# EAGLE library part IS25LQ032B-JNLE (library mbed-HDK-IC)
Serial Flash 32 Mb 104 Mhz
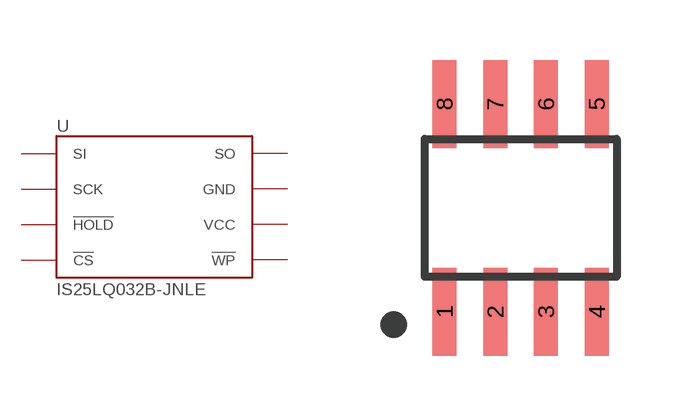
[diagram p22: symbol with the pads of SO8; footprint SO8]

Designator prefix U

## IS25LQ032B-JNLE (MF: ISSI; MFN: IS25LQ032B-JNLE; OC-DIGIKEY: 870-25LQ032BJNLE; OC-MOUSER: 870-25LQ032BJNLE; OC-NEWARK: 52Y1899)  [SO8]
1  !CS
2  SO
3  !WP
4  GND
5  SI
6  SCK
7  !HOLD
8  VCC

## Footprint SO8 (pad centres in mm)
smd 0.6 x 2.2: 1 -1.905,-2.6; 2 -0.635,-2.6; 3 0.635,-2.6; 4 1.905,-2.6; 5 1.905,2.6; 6 0.635,2.6; 7 -0.635,2.6; 8 -1.905,2.6